# EAGLE library part 2.2IN_ILI9341 (library displays)
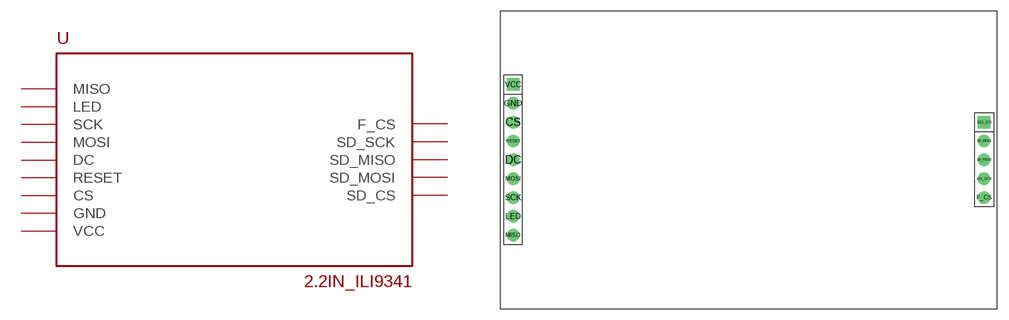
[diagram p0: symbol with the pads of 2.2IN_ILI9341; footprint 2.2IN_ILI9341]

Designator prefix -

## 2.2IN_ILI9341  [2.2IN_ILI9341]
CS  CS  in
DC  DC  in
F_CS  F_CS
GND  GND  pwr
LED  LED  in
MISO  MISO  out
MOSI  MOSI  in
RESET  RESET  in
SCK  SCK  in
SD_CS  SD_CS  in
SD_MISO  SD_MISO  out
SD_MOSI  SD_MOSI  in
SD_SCK  SD_SCK  in
VCC  VCC  pwr

## Footprint 2.2IN_ILI9341 (pad centres in mm)
drill 0.9 pad 1.676: CS -31.75,5.08; DC -31.75,0; F_CS 31.75,-5.08; GND -31.75,7.62; LED -31.75,-7.62; MISO -31.75,-10.16; MOSI -31.75,-2.54; RESET -31.75,2.54; SCK -31.75,-5.08; SD_MISO 31.75,0; SD_MOSI 31.75,2.54; SD_SCK 31.75,-2.54
drill 0.9 pad 1.676 square: SD_CS 31.75,5.08; VCC -31.75,10.16